# EAGLE library part WE-RJ45_74984104400 (library WE-RJ45_LAN)
WE-RJ45 LAN Through Hole Reflow Characteristics RJ45 designed to use for Pin-in-Paste soldering High mechanical stability through THT pins High Temperature LEDs Extra high standoff for a good thermal airflow Power over Ethernet up to 30 W Compliant with standard: IEEE 802.3u, IEEE 802.3ab, IEEE 802.3af, IEEE 802.3at Applications Suitable for industrial temperatures from –40 °C up to +85 °C Compatible to Industrial Ethernet systems like EtherCAT or Profinet Compliant with most IC’s for Ethernet applications such as Microchip, Texas Instruments, Broadcom, Linear Technology Hubs, Routers, Switches, IP cameras, IoT applications Details see: www.we-online.com/components/products/WE-LAN-RJ45_THR Updated by Ella Wu 2023-08-16 2023 (C) Würth Elektronik
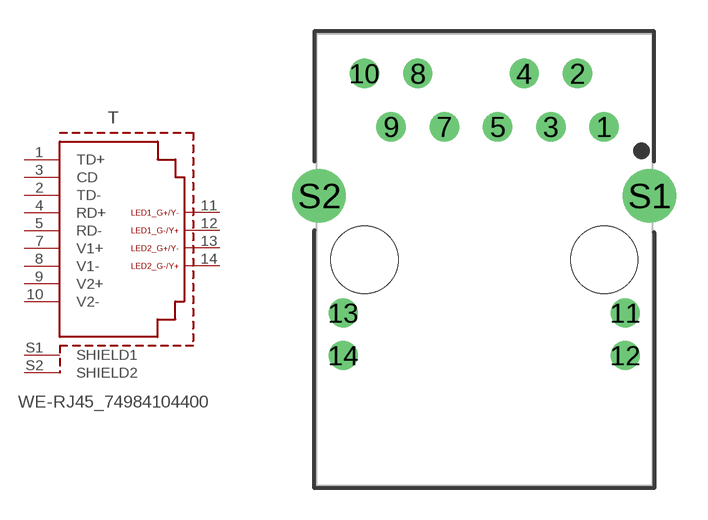
[diagram p92: symbol with the pads of 74984104400; footprint 74984104400]

Designator prefix T

## WE-RJ45_74984104400 (DATA-RATE: 100BASE-TX; DATASHEET: https://www.we-online.com/redexpert/spec/74984104400?ae; IMPROVED-CMRR: No; LED: green/yellow - green/yellow; MOUNT: THR; OPERATING-TEMPERATURE: -40 °C up to +85 °C; PART-NUMBER: 74984104400; PHY-CHIP-MODE: current; POE: PoE+; PORTS: 1; SHIELD-TABS: No; TAB: Up; USB: No; VALUE: 74984104400)  [74984104400]
1  TD+  pas
2  TD-  pas
3  CD  pas
4  RD+  pas
5  RD-  pas
7  V1+  pas
8  V1-  pas
9  V2+  pas
10  V2-  pas
11  LED1_G+/Y-  pas
12  LED1_G-/Y+  pas
13  LED2_G+/Y-  pas
14  LED2_G-/Y+  pas
S1  SHIELD1  pas
S2  SHIELD2  pas

## Footprint 74984104400 (pad centres in mm)
WE-RJ45 LAN Through Hole Reflow 100BASE-TX, Ports:1x1, Tab:Up
drill 0.89: 1 5.715,6.35; 2 4.445,8.89; 3 3.175,6.35; 4 1.905,8.89; 5 0.635,6.35; 7 -1.905,6.35; 8 -3.175,8.89; 9 -4.445,6.35; 10 -5.715,8.89; 11 6.725,-2.54; 12 6.725,-4.57; 13 -6.725,-2.54; 14 -6.725,-4.57
drill 1.7: S1 7.875,3.05; S2 -7.875,3.05
hole 3.2 at 5.715,0
hole 3.2 at -5.715,0